# Altium footprint library Transistor.PcbLib: 227 footprints (part 6 of 15)
Each footprint in its own frame and in the unit in brackets; x right, y up, seen from the top. Pads: shape width x height; smd on the part's side, far side on the other; paste and mask are expansions set on the pad; w line width, h text height; cw(c..) or ccw(c..) is an arc to the next point about the centre after c.
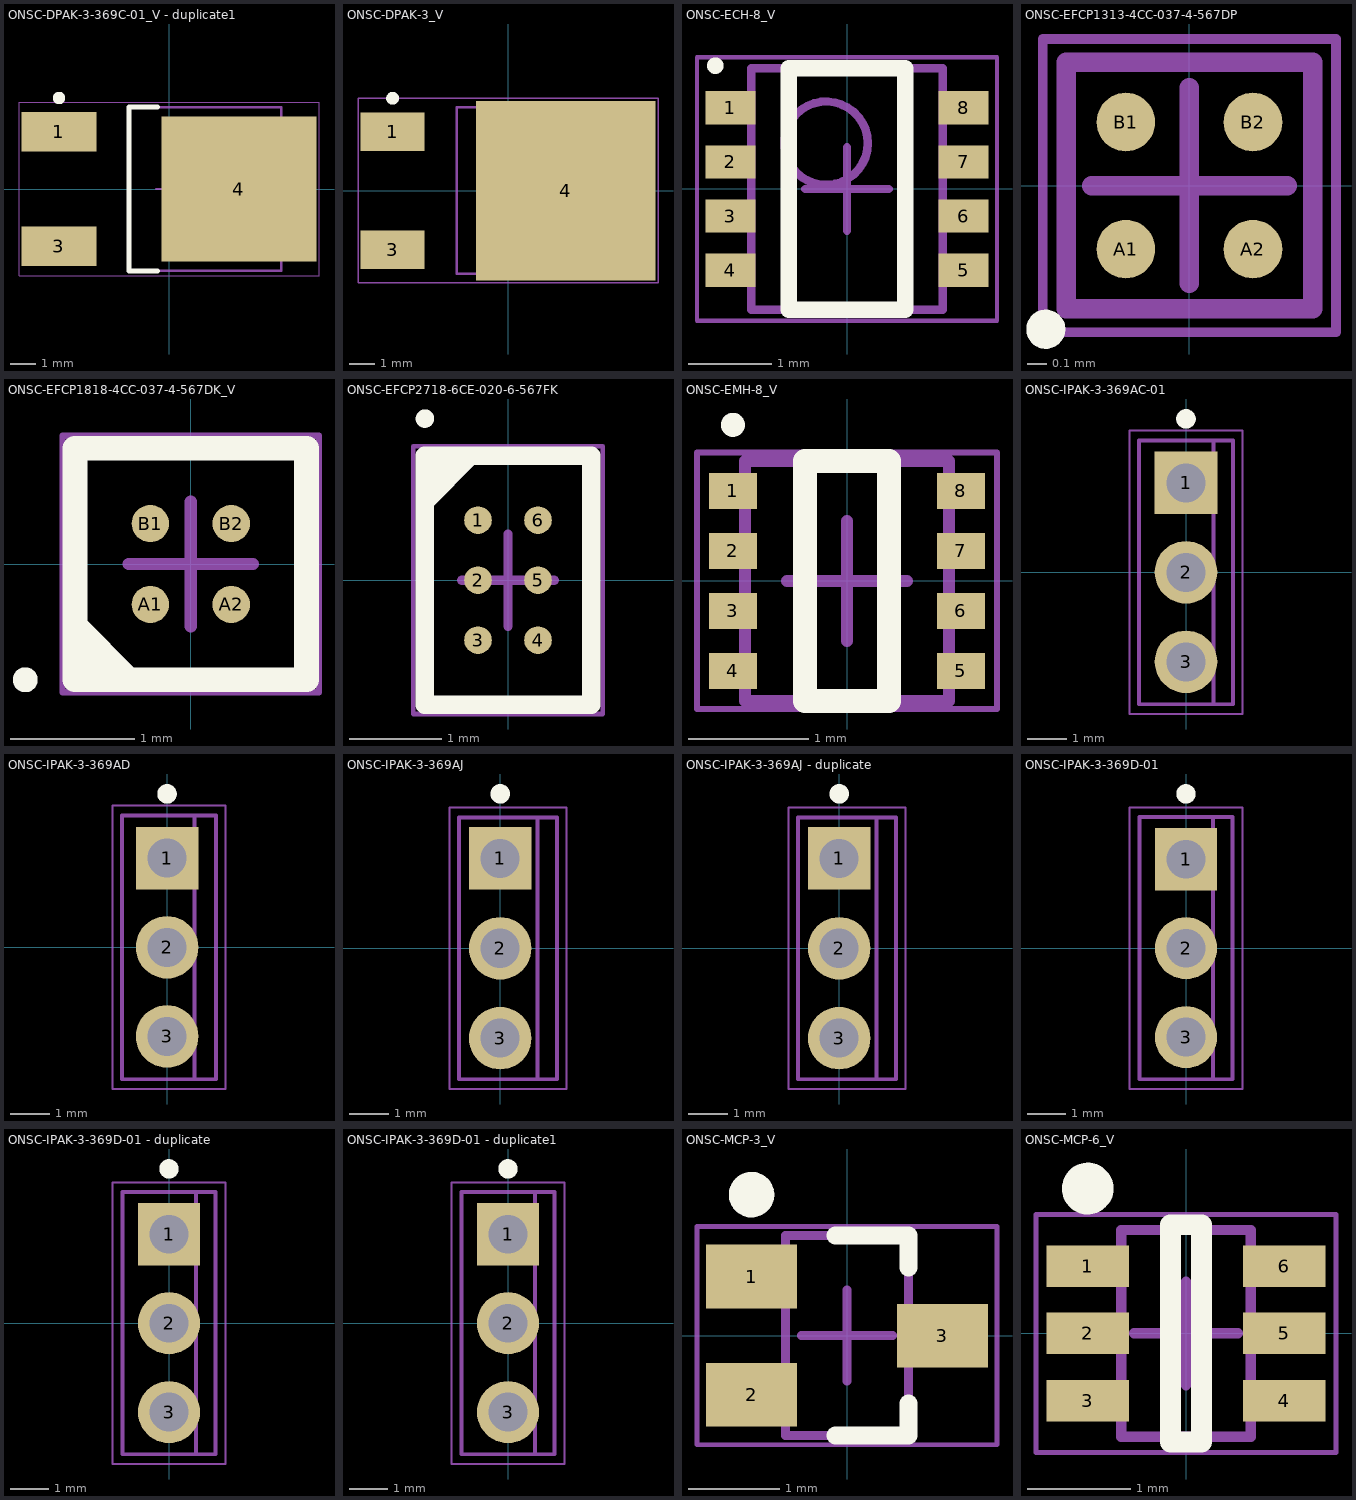
[diagram p5: the footprints below, top view; thin cyan lines are the x and y axes]

## ONSC-DPAK-3-369C-01_V - duplicate1 [mm] "DPAK, 3-Leads, Body 6.54x6.095mm, Pitch 2.29mm"
height 2.38
pads (3):
  rect 3x1.6 smd: 1(-4.4,2.29) 3(-4.4,-2.29)
  rect 6.2x5.8 smd: 4(2.8,0)
Top Overlay:
  circle w0.25: c-4.4,3.64 r0.125
  lines w0.2: -0.453,-3.27 -1.6,-3.27 -1.6,3.27 -0.453,3.27
Mechanical 13:
  lines w0.1: -1.6,-3.27 -1.6,3.27 4.495,3.27 4.495,-3.27 -1.6,-3.27
Mechanical 15:
  lines w0.05: -6,-3.465 -6,3.465 6,3.465 6,-3.465 -6,-3.465
  lines w0.1: -0.5,0 0.5,0 ; 0,-0.5 0,0.5
3D body: height 2.38, standoff 0, extent -1.6,-3.27 4.495,3.27

## ONSC-DPAK-3_V [mm] "DPAK, 3-Leads, Body 6.5x5.5mm, Pitch 2.3mm"
height 2.5
pads (3):
  rect 2.5x1.5 smd: 1(-4.5,2.3) 3(-4.5,-2.3)
  rect 7x7 smd: 4(2.25,0)
Top Overlay:
  circle w0.25: c-4.5,3.6 r0.125
Mechanical 13:
  lines w0.1: -2,-3.25 -2,3.25 3.5,3.25 3.5,-3.25 -2,-3.25
Mechanical 15:
  lines w0.05: -5.85,-3.6 -5.85,3.6 5.85,3.6 5.85,-3.6 -5.85,-3.6
  lines w0.1: -0.5,0 0.5,0 ; 0,-0.5 0,0.5
3D body: height 2.5, standoff 0, extent -2,-3.25 3.5,3.25

## ONSC-ECH-8_V [mm] "SOT23, 8-Leads, Body 2.9x2.3mm, Pitch 0.65mm"
height 0.95
pads (8):
  rect 0.6x0.4 smd: 1(-1.4,0.975) 2(-1.4,0.325) 3(-1.4,-0.325) 4(-1.4,-0.975) 5(1.4,-0.975) 6(1.4,-0.325) 7(1.4,0.325) 8(1.4,0.975)
Top Overlay:
  circle w0.1: c-1.58,1.48 r0.05
  lines w0.2: -0.7,-1.45 0.7,-1.45 0.7,1.45 -0.7,1.45 -0.7,-1.45
Mechanical 13:
  circle w0.1: c-0.25,0.55 r0.5
  lines w0.1: -1.15,-1.45 -1.15,1.45 1.15,1.45 1.15,-1.45 -1.15,-1.45
Mechanical 15:
  lines w0.05: -1.8,-1.58 1.8,-1.58 1.8,1.58 -1.8,1.58 -1.8,-1.58
  lines w0.1: -0.5,0 0.5,0 ; 0,-0.5 0,0.5
3D body: height 0.95, standoff 0, extent -1.15,-1.45 1.15,1.45

## ONSC-EFCP1313-4CC-037-4-567DP [mm] "BGA, 4-Balls, Body 1.26x1.26mm, Pitch 0.65mm"
height 0.43
pads (4):
  round 0.3 smd: A1(-0.325,-0.325) A2(0.325,-0.325) B1(-0.325,0.325) B2(0.325,0.325)
Top Overlay:
  circle w0.1: c-0.735,-0.735 r0.05
Mechanical 13:
  lines w0.1: -0.63,-0.63 0.63,-0.63 0.63,0.63 -0.63,0.63 -0.63,-0.63
Mechanical 15:
  lines w0.05: -0.75,-0.75 0.75,-0.75 0.75,0.75 -0.75,0.75 -0.75,-0.75
  lines w0.1: -0.5,0 0.5,0 ; 0,-0.5 0,0.5
3D body: height 0.43, standoff 0.11, extent -0.63,-0.63 0.63,0.63

## ONSC-EFCP1818-4CC-037-4-567DK_V [mm] "BGA, 4-Balls, Body 1.81x1.81mm, Pitch 0.65mm"
height 0.43
pads (4):
  round 0.3 smd: A1(-0.325,-0.325) A2(0.325,-0.325) B1(-0.325,0.325) B2(0.325,0.325)
Top Overlay:
  circle w0.1: c-1.33,-0.93 r0.05
  region: -0.498,-0.93 -0.93,-0.498 -0.93,-0.93
  lines w0.2: -0.93,-0.498 -0.498,-0.93 ; -0.93,-0.93 0.93,-0.93 0.93,0.93 -0.93,0.93 -0.93,-0.93
Mechanical 13:
  lines w0.1: -0.905,-0.905 0.905,-0.905 0.905,0.905 -0.905,0.905 -0.905,-0.905
Mechanical 15:
  lines w0.05: -1.03,-1.03 1.03,-1.03 1.03,1.03 -1.03,1.03 -1.03,-1.03
  lines w0.1: -0.5,0 0.5,0 ; 0,-0.5 0,0.5
3D body: height 0.43, standoff 0.11, extent -0.905,-0.905 0.905,0.905

## ONSC-EFCP2718-6CE-020-6-567FK [mm] "BGA, 6-Balls, Body 2.7x1.81mm, Pitch 0.65mm"
height 0.22
pads (6):
  round 0.3 smd: 1(-0.325,0.65) 2(-0.325,0) 3(-0.325,-0.65) 4(0.325,-0.65) 5(0.325,0) 6(0.325,0.65)
Top Overlay:
  circle w0.1: c-0.9,1.75 r0.05
  region: -0.9,0.85 -0.4,1.35 -0.9,1.35
  lines w0.2: -0.9,0.85 -0.4,1.35 ; -0.9,-1.35 -0.9,1.35 0.9,1.35 0.9,-1.35 -0.9,-1.35
Mechanical 13:
  lines w0.1: -0.905,-1.35 -0.905,1.35 0.905,1.35 0.905,-1.35 -0.905,-1.35
Mechanical 15:
  lines w0.05: -1.025,-1.45 -1.025,1.45 1.025,1.45 1.025,-1.45 -1.025,-1.45
  lines w0.1: -0.5,0 0.5,0 ; 0,-0.5 0,0.5
3D body: height 0.22, standoff 0, extent -0.905,-1.35 0.905,1.35

## ONSC-EMH-8_V [mm] "SOT23, 8-Leads, Body 2x1.7mm, Pitch 0.5mm"
height 0.78
pads (8):
  rect 0.4x0.3 smd: 1(-0.95,0.75) 2(-0.95,0.25) 3(-0.95,-0.25) 4(-0.95,-0.75) 5(0.95,-0.75) 6(0.95,-0.25) 7(0.95,0.25) 8(0.95,0.75)
Top Overlay:
  circle w0.1: c-0.95,1.3 r0.05
  lines w0.2: -0.35,-1 -0.35,1 0.35,1 0.35,-1 -0.35,-1
Mechanical 13:
  lines w0.1: -0.85,-1 -0.85,1 0.85,1 0.85,-1 -0.85,-1
Mechanical 15:
  lines w0.05: -1.25,-1.07 1.25,-1.07 1.25,1.07 -1.25,1.07 -1.25,-1.07
  lines w0.1: -0.5,0 0.5,0 ; 0,-0.5 0,0.5
3D body: height 0.78, standoff 0, extent -0.85,-1 0.85,1

## ONSC-IPAK-3-369AC-01 [mm] "FM, 3-Leads, Body 6.75x2.4mm, Pitch 2.29mm"
height 7.56
pads (3):
  rect 1.6x1.6 hole 1: 1(0,2.29)
  round 1.6 hole 1: 2(0,0) 3(0,-2.29)
Top Overlay:
  circle w0.25: c0,3.925 r0.125
Mechanical 13:
  lines w0.1: 0.7,-3.375 0.7,3.375 ; -1.2,-3.375 -1.2,3.375 1.2,3.375 1.2,-3.375 -1.2,-3.375
Mechanical 15:
  lines w0.05: -1.45,-3.625 -1.45,3.625 1.45,3.625 1.45,-3.625 -1.45,-3.625
  lines w0.1: -0.5,0 0.5,0 ; 0,-0.5 0,0.5
3D body: height 0, standoff -1.6, extent -0.26,1.895 0.26,2.685
3D body: height 0, standoff -1.6, extent -0.26,-0.395 0.26,0.395
3D body: height 0, standoff -1.6, extent -0.26,-2.685 0.26,-1.895
3D body: height 6.46, standoff 0, extent -1.2,-3.375 1.2,3.375
3D body: height 7.56, standoff 6.46, extent 0.7,-2.5 1.2,2.5

## ONSC-IPAK-3-369AD [mm] "FM, 3-Leads, Body 6.75x2.4mm, Pitch 2.28mm"
height 9.51
pads (3):
  rect 1.6x1.6 hole 1: 1(0,2.28)
  round 1.6 hole 1: 2(0,0) 3(0,-2.28)
Top Overlay:
  circle w0.25: c0,3.925 r0.125
Mechanical 13:
  lines w0.1: 0.7,-3.375 0.7,3.375 ; -1.15,-3.375 -1.15,3.375 1.25,3.375 1.25,-3.375 -1.15,-3.375
Mechanical 15:
  lines w0.05: -1.4,-3.625 -1.4,3.625 1.5,3.625 1.5,-3.625 -1.4,-3.625
  lines w0.1: -0.5,0 0.5,0 ; 0,-0.5 0,0.5
3D body: height 2.1, standoff 0, extent -0.265,1.81 0.265,2.75
3D body: height 0, standoff -1.6, extent -0.265,1.885 0.265,2.675
3D body: height 2.1, standoff 0, extent -0.265,-0.47 0.265,0.47
3D body: height 0, standoff -1.6, extent -0.265,-0.395 0.265,0.395
3D body: height 2.1, standoff 0, extent -0.265,-2.75 0.265,-1.81
3D body: height 0, standoff -1.6, extent -0.265,-2.675 0.265,-1.885
3D body: height 8.41, standoff 2.1, extent -1.15,-3.375 1.25,3.375
3D body: height 9.51, standoff 8.41, extent 0.7,-2.475 1.25,2.475

## ONSC-IPAK-3-369AJ [mm] "FM, 3-Leads, Body 6.7x2.5mm, Pitch 2.3mm"
height 9.1
pads (3):
  rect 1.6x1.6 hole 1: 1(0,2.3)
  round 1.6 hole 1: 2(0,0) 3(0,-2.3)
Top Overlay:
  circle w0.25: c0,3.95 r0.125
Mechanical 13:
  lines w0.1: 0.95,-3.35 0.95,3.35 ; -1.05,-3.35 1.45,-3.35 1.45,3.35 -1.05,3.35 -1.05,-3.35
Mechanical 15:
  lines w0.05: -1.3,-3.6 1.7,-3.6 1.7,3.6 -1.3,3.6 -1.3,-3.6
  lines w0.1: -0.5,0 0.5,0 ; 0,-0.5 0,0.5
3D body: height 9.1, standoff 7.6, extent 0.95,-2.5 1.45,2.5
3D body: height 7.6, standoff 1.4, extent -1.05,-3.35 1.45,3.35
3D body: height 0, standoff -1.6, extent -0.25,-2.6 0.25,-2
3D body: height 1.4, standoff 0, extent -0.25,-2.725 0.25,-1.875
3D body: height 0, standoff -1.6, extent -0.25,-0.3 0.25,0.3
3D body: height 1.4, standoff 0, extent -0.25,-0.425 0.25,0.425
3D body: height 0, standoff -1.6, extent -0.25,2 0.25,2.6
3D body: height 1.4, standoff 0, extent -0.25,1.875 0.25,2.725

## ONSC-IPAK-3-369AJ - duplicate [mm] "FM, 3-Leads, Body 6.7x2.5mm, Pitch 2.3mm"
height 9.1
pads (3):
  rect 1.6x1.6 hole 1: 1(0,2.3)
  round 1.6 hole 1: 2(0,0) 3(0,-2.3)
Top Overlay:
  circle w0.25: c0,3.95 r0.125
Mechanical 13:
  lines w0.1: 0.95,-3.35 0.95,3.35 ; -1.05,-3.35 -1.05,3.35 1.45,3.35 1.45,-3.35 -1.05,-3.35
Mechanical 15:
  lines w0.05: -1.3,-3.6 -1.3,3.6 1.7,3.6 1.7,-3.6 -1.3,-3.6
  lines w0.1: -0.5,0 0.5,0 ; 0,-0.5 0,0.5
3D body: height 1.4, standoff 0, extent -0.25,1.875 0.25,2.725
3D body: height 0, standoff -1.6, extent -0.25,2 0.25,2.6
3D body: height 1.4, standoff 0, extent -0.25,-0.425 0.25,0.425
3D body: height 0, standoff -1.6, extent -0.25,-0.3 0.25,0.3
3D body: height 1.4, standoff 0, extent -0.25,-2.725 0.25,-1.875
3D body: height 0, standoff -1.6, extent -0.25,-2.6 0.25,-2
3D body: height 7.6, standoff 1.4, extent -1.05,-3.35 1.45,3.35
3D body: height 9.1, standoff 7.6, extent 0.95,-2.5 1.45,2.5

## ONSC-IPAK-3-369D-01 [mm] "FM, 3-Leads, Body 6.75x2.4mm, Pitch 2.29mm"
height 8.52
pads (3):
  rect 1.6x1.6 hole 1: 1(0,2.29)
  round 1.6 hole 1: 2(0,0) 3(0,-2.29)
Top Overlay:
  circle w0.25: c0,3.975 r0.125
Mechanical 13:
  lines w0.1: 0.7,-3.375 0.7,3.375 ; -1.2,-3.375 -1.2,3.375 1.2,3.375 1.2,-3.375 -1.2,-3.375
Mechanical 15:
  lines w0.05: -1.45,-3.625 -1.45,3.625 1.45,3.625 1.45,-3.625 -1.45,-3.625
  lines w0.1: -0.5,0 0.5,0 ; 0,-0.5 0,0.5
3D body: height 0.06, standoff 0, extent -0.26,1.77 0.26,2.81
3D body: height 0.58, standoff 0.06, extent -0.26,1.77 0.26,2.81
3D body: height 0.63, standoff 0.58, extent -0.26,1.77 0.26,2.81
3D body: height 0, standoff -1.6, extent -0.26,1.895 0.26,2.685
3D body: height 0.06, standoff 0, extent -0.26,-0.52 0.26,0.52
3D body: height 0.58, standoff 0.06, extent -0.26,-0.52 0.26,0.52
3D body: height 0.63, standoff 0.58, extent -0.26,-0.52 0.26,0.52
3D body: height 0, standoff -1.6, extent -0.26,-0.395 0.26,0.395
3D body: height 0.06, standoff 0, extent -0.26,-2.81 0.26,-1.77
3D body: height 0.58, standoff 0.06, extent -0.26,-2.81 0.26,-1.77
3D body: height 0.63, standoff 0.58, extent -0.26,-2.81 0.26,-1.77
3D body: height 0, standoff -1.6, extent -0.26,-2.685 0.26,-1.895
3D body: height 7.42, standoff 0.63, extent -1.2,-3.375 1.2,3.375
3D body: height 8.52, standoff 7.42, extent 0.7,-2.475 1.2,2.475

## ONSC-IPAK-3-369D-01 - duplicate [mm] "FM, 3-Leads, Body 6.75x2.4mm, Pitch 2.29mm"
height 8.52
pads (3):
  rect 1.6x1.6 hole 1: 1(0,2.29)
  round 1.6 hole 1: 2(0,0) 3(0,-2.29)
Top Overlay:
  circle w0.25: c0,3.975 r0.125
Mechanical 13:
  lines w0.1: 0.7,-3.375 0.7,3.375 ; -1.2,-3.375 1.2,-3.375 1.2,3.375 -1.2,3.375 -1.2,-3.375
Mechanical 15:
  lines w0.05: -1.45,-3.625 1.45,-3.625 1.45,3.625 -1.45,3.625 -1.45,-3.625
  lines w0.1: -0.5,0 0.5,0 ; 0,-0.5 0,0.5
3D body: height 8.52, standoff 7.42, extent 0.7,-2.475 1.2,2.475
3D body: height 7.42, standoff 0.63, extent -1.2,-3.375 1.2,3.375
3D body: height 0, standoff -1.6, extent -0.26,-2.685 0.26,-1.895
3D body: height 0.63, standoff 0.58, extent -0.26,-2.81 0.26,-1.77
3D body: height 0.58, standoff 0.06, extent -0.26,-2.81 0.26,-1.77
3D body: height 0.06, standoff 0, extent -0.26,-2.81 0.26,-1.77
3D body: height 0, standoff -1.6, extent -0.26,-0.395 0.26,0.395
3D body: height 0.63, standoff 0.58, extent -0.26,-0.52 0.26,0.52
3D body: height 0.58, standoff 0.06, extent -0.26,-0.52 0.26,0.52
3D body: height 0.06, standoff 0, extent -0.26,-0.52 0.26,0.52
3D body: height 0, standoff -1.6, extent -0.26,1.895 0.26,2.685
3D body: height 0.63, standoff 0.58, extent -0.26,1.77 0.26,2.81
3D body: height 0.58, standoff 0.06, extent -0.26,1.77 0.26,2.81
3D body: height 0.06, standoff 0, extent -0.26,1.77 0.26,2.81

## ONSC-IPAK-3-369D-01 - duplicate1 [mm] "FM, 3-Leads, Body 6.75x2.4mm, Pitch 2.29mm"
height 8.52
pads (3):
  rect 1.6x1.6 hole 1: 1(0,2.29)
  round 1.6 hole 1: 2(0,0) 3(0,-2.29)
Top Overlay:
  circle w0.25: c0,3.975 r0.125
Mechanical 13:
  lines w0.1: 0.7,-3.375 0.7,3.375 ; -1.2,-3.375 1.2,-3.375 1.2,3.375 -1.2,3.375 -1.2,-3.375
Mechanical 15:
  lines w0.05: -1.45,-3.625 1.45,-3.625 1.45,3.625 -1.45,3.625 -1.45,-3.625
  lines w0.1: -0.5,0 0.5,0 ; 0,-0.5 0,0.5
3D body: height 8.52, standoff 7.42, extent 0.7,-2.475 1.2,2.475
3D body: height 7.42, standoff 0.63, extent -1.2,-3.375 1.2,3.375
3D body: height 0, standoff -1.6, extent -0.26,-2.685 0.26,-1.895
3D body: height 0.63, standoff 0.58, extent -0.26,-2.81 0.26,-1.77
3D body: height 0.58, standoff 0.06, extent -0.26,-2.81 0.26,-1.77
3D body: height 0.06, standoff 0, extent -0.26,-2.81 0.26,-1.77
3D body: height 0, standoff -1.6, extent -0.26,-0.395 0.26,0.395
3D body: height 0.63, standoff 0.58, extent -0.26,-0.52 0.26,0.52
3D body: height 0.58, standoff 0.06, extent -0.26,-0.52 0.26,0.52
3D body: height 0.06, standoff 0, extent -0.26,-0.52 0.26,0.52
3D body: height 0, standoff -1.6, extent -0.26,1.895 0.26,2.685
3D body: height 0.63, standoff 0.58, extent -0.26,1.77 0.26,2.81
3D body: height 0.58, standoff 0.06, extent -0.26,1.77 0.26,2.81
3D body: height 0.06, standoff 0, extent -0.26,1.77 0.26,2.81

## ONSC-MCP-3_V [mm] "SOT23, 3-Leads, Body 2.2x1.35mm, Pitch 0.65mm"
height 1.05
pads (3):
  rect 1x0.7 smd: 1(-1.05,0.65) 2(-1.05,-0.65) 3(1.05,0)
Top Overlay:
  circle w0.25: c-1.05,1.55 r0.125
  lines w0.2: -0.125,-1.1 0.675,-1.1 0.675,-0.75 ; -0.125,1.1 0.675,1.1 0.675,0.75
Mechanical 13:
  lines w0.1: -0.675,-1.1 -0.675,1.1 0.675,1.1 0.675,-1.1 -0.675,-1.1
Mechanical 15:
  lines w0.05: -1.65,-1.2 -1.65,1.2 1.65,1.2 1.65,-1.2 -1.65,-1.2
  lines w0.1: -0.5,0 0.5,0 ; 0,-0.5 0,0.5
3D body: height 1.05, standoff 0, extent -0.675,-1.1 0.675,1.1

## ONSC-MCP-6_V [mm] "SOT23, 6-Leads, Body 2x1.25mm, Pitch 0.65mm"
height 1.08
pads (6):
  rect 0.8x0.4 smd: 1(-0.95,0.65) 2(-0.95,0) 3(-0.95,-0.65) 4(0.95,-0.65) 5(0.95,0) 6(0.95,0.65)
Top Overlay:
  circle w0.25: c-0.95,1.4 r0.125
  lines w0.2: -0.15,-1.05 -0.15,1.05 0.15,1.05 0.15,-1.05 -0.15,-1.05
Mechanical 13:
  lines w0.1: -0.625,-1 0.625,-1 0.625,1 -0.625,1 -0.625,-1
Mechanical 15:
  lines w0.05: -1.45,-1.15 1.45,-1.15 1.45,1.15 -1.45,1.15 -1.45,-1.15
  lines w0.1: -0.5,0 0.5,0 ; 0,-0.5 0,0.5
3D body: height 1.08, standoff 0, extent -0.625,-1 0.625,1